# Altium schematic symbol library Radolovic_SCH_Library.SchLib: 14 symbols
Pins are listed as number, name and electrical type; pins without a type are passive.

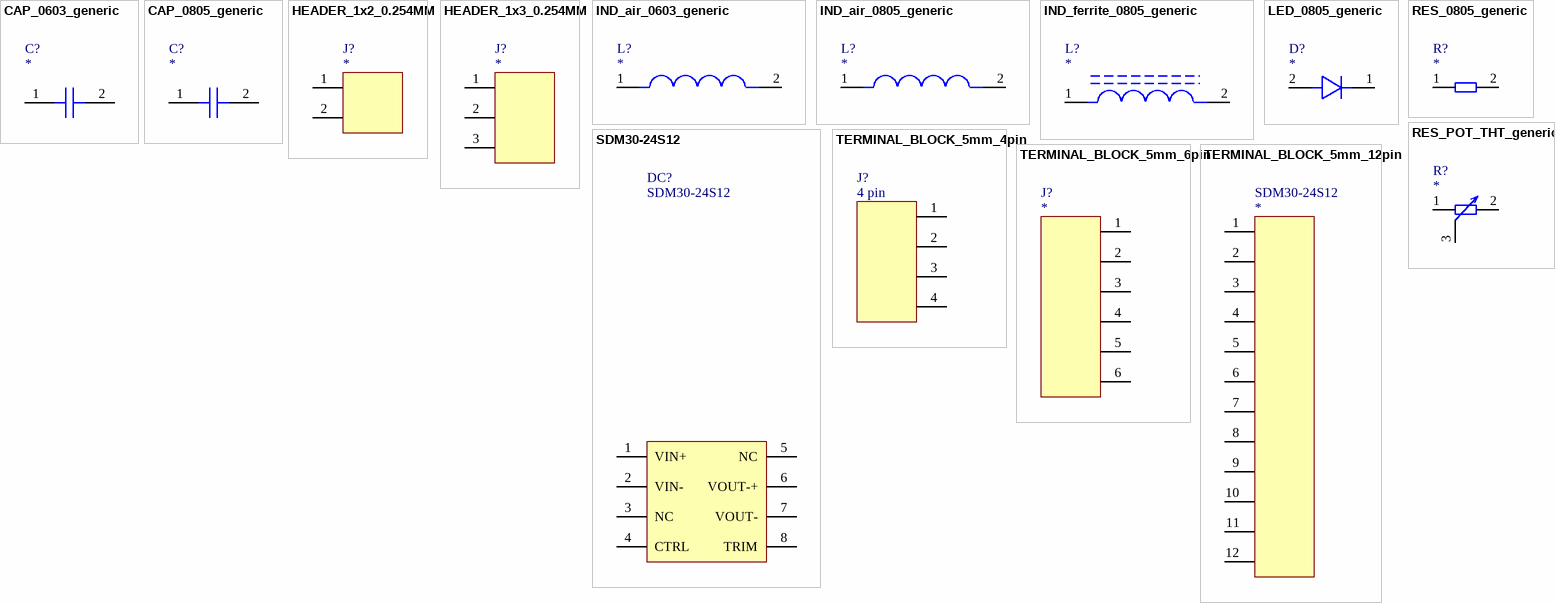
[diagram p0: symbols CAP_0603_generic to TERMINAL_BLOCK_5mm_12pin]

## CAP_0603_generic
designator C?
Part Number: *; Value: *; Manufacturer: *; Supplier: *; Order Code: *
footprint 0603_CAP
pins: 1, 2

## CAP_0805_generic
designator C?
Part Number: *; Value: *; Manufacturer: *; Supplier: *; Order Code: *
footprint 0805 Resistor - IPC A
pins: 1, 2

## HEADER_1x2_0.254MM
designator J?
Part Number: *; Value: *; Manufacturer: *; Supplier: *; Order Code: *
pins: 1, 2

## HEADER_1x3_0.254MM
designator J?
Part Number: *; Value: *; Manufacturer: *; Supplier: *; Order Code: *
pins: 1, 2, 3

## IND_air_0603_generic
designator L?
Part Number: *; Value: *; Manufacturer: *; Supplier: *; Order Code: *
footprint 0603_CAP
pins: 1, 2

## IND_air_0805_generic
designator L?
Part Number: *; Value: *; Manufacturer: *; Supplier: *; Order Code: *
footprint 0805 Resistor - IPC A
pins: 1, 2

## IND_ferrite_0805_generic
designator L?
Part Number: *; Value: *; Manufacturer: *; Supplier: *; Order Code: *
footprint 0805 Resistor - IPC A
pins: 1, 2

## LED_0805_generic
designator D?
Part Number: *; Value: *; Manufacturer: *; Supplier: *; Order Code: *
footprint 0805 Resistor - IPC A
pins: 1 Cathode, 2 Anode

## RES_0805_generic
designator R?
Part Number: *; Value: *; Manufacturer: *; Supplier: *; Order Code: *
footprint 0805 Resistor - IPC A
pins: 1, 2

## RES_POT_THT_generic
designator R?
Part Number: *; Value: *; Manufacturer: *; Supplier: *; Order Code: *
footprint 3 pin header
pins: 1, 2, 3

## SDM30-24S12
designator DC?
Isolated DC/DC Converters - Through Hole 30W 24Vin 12Vout 2.5A; Manufacturer: Mean Well; Part Number: SDM30-24S12; Value: SDM30-24S12; Supplier: *; Order Code: *
footprint SDM30-24S12
pins: 1 VIN+, 2 VIN-, 3 NC, 4 CTRL, 5 NC, 6 VOUT-+, 7 VOUT-, 8 TRIM

## TERMINAL_BLOCK_5mm_4pin
designator J?, comment 4 pin
Part Number: *; Value: 4 pin; Manufacturer: *; Supplier: *; Order Code: *
footprint 4 pin terminal 5 mm
pins: 1, 2, 3, 4

## TERMINAL_BLOCK_5mm_6pin
designator J?
Part Number: *; Value: *; Manufacturer: *; Supplier: *; Order Code: *
footprint 6 pin terminal 5 mm (6 pin terminal block 5 mm)
pins: 1, 2, 3, 4, 5, 6

## TERMINAL_BLOCK_5mm_12pin
designator SDM30-24S12
Part Number: *; Value: *; Manufacturer: *; Supplier: *; Order Code: *
footprint 12 pin terminal 5mm (12 pin terminal block 5 mm)
pins: 1, 2, 3, 4, 5, 6, 7, 8, 9, 10, 11, 12